# Altium footprint library thermostat.PcbLib: 105 footprints (part 4 of 7)
Each footprint in its own frame and in the unit in brackets; x right, y up, seen from the top. Pads: shape width x height; smd on the part's side, far side on the other; paste and mask are expansions set on the pad; w line width, h text height; cw(c..) or ccw(c..) is an arc to the next point about the centre after c.
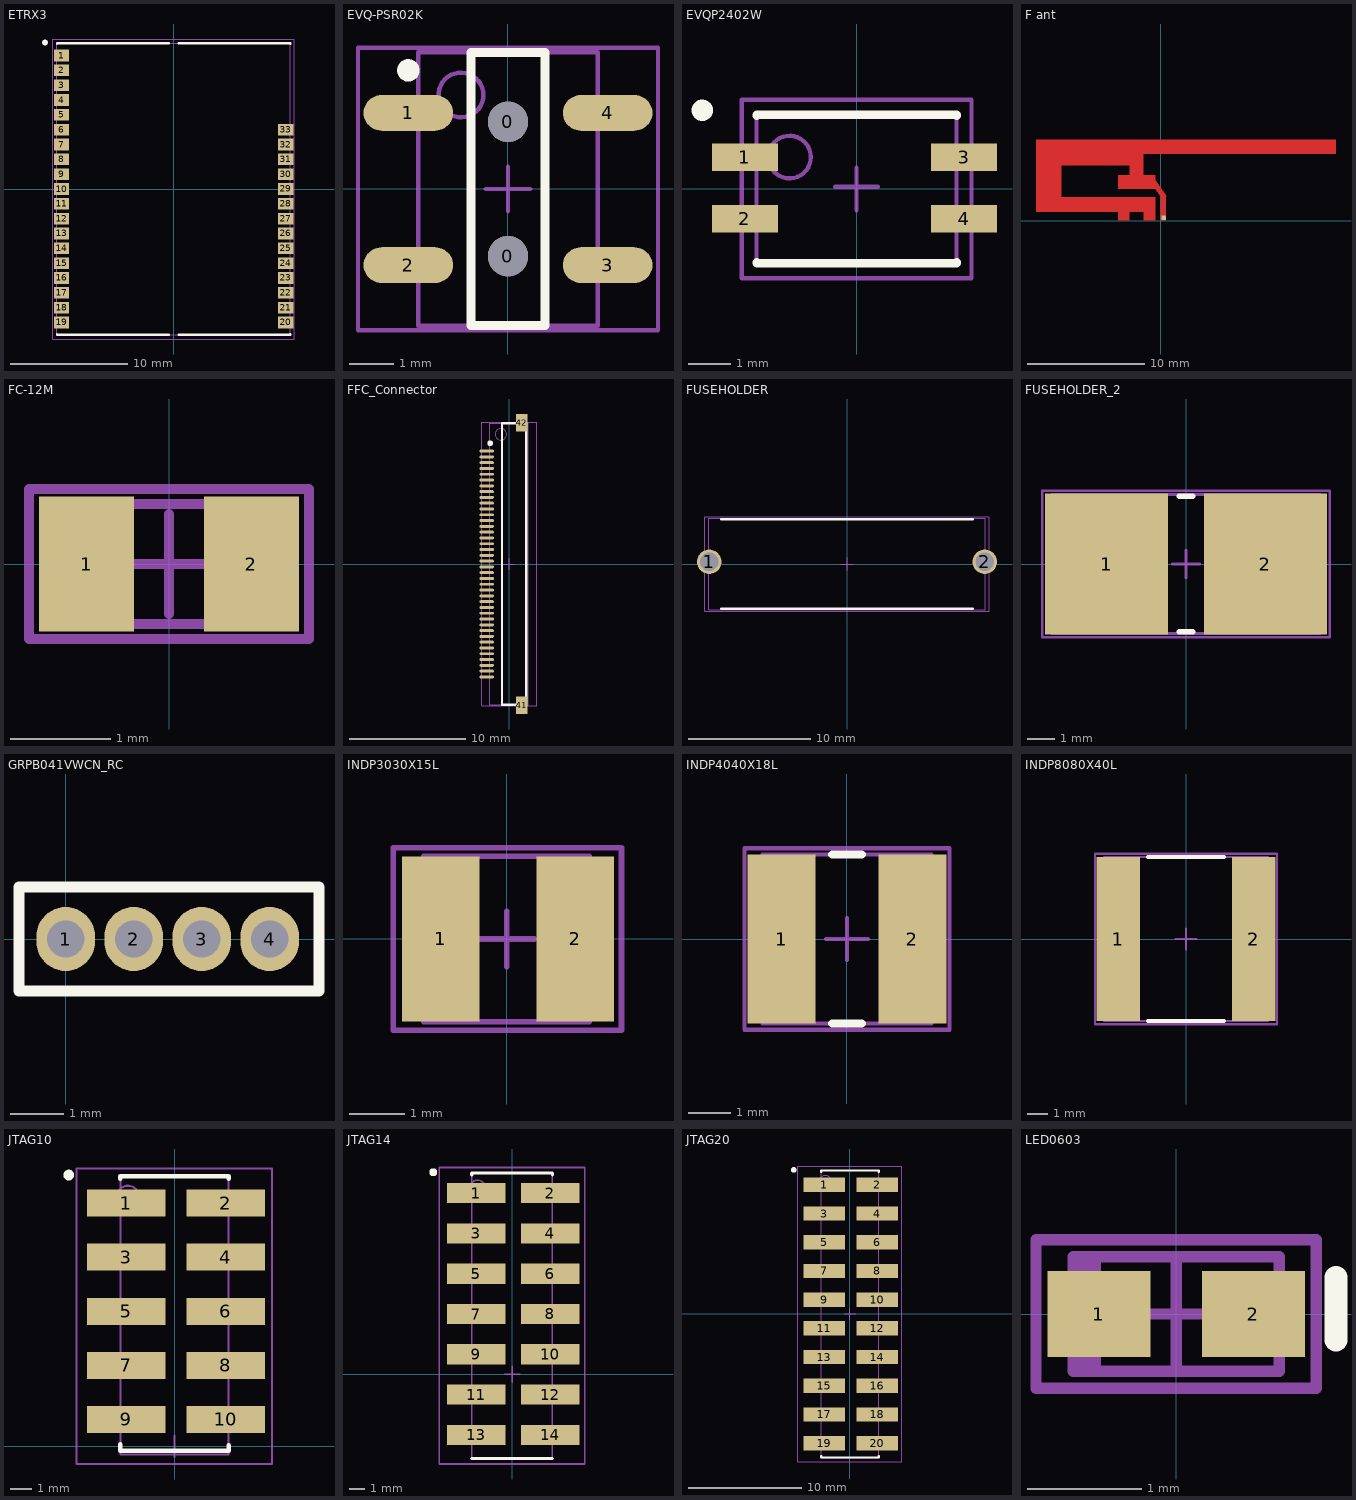
[diagram p3: the footprints below, top view; thin cyan lines are the x and y axes]

## ETRX3 [mm] "ETRX3, 38-Leads, Body 25,0x20,0mm (max), Pitch 1,27mm, IPC High Density"
height 6
pads (33):
  rect 1.3x1 smd: 1(-9.6,11.43) 2(-9.6,10.16) 3(-9.6,8.89) 4(-9.6,7.62) 5(-9.6,6.35) 6(-9.6,5.08) 7(-9.6,3.81) 8(-9.6,2.54) 9(-9.6,1.27) 10(-9.6,0) 11(-9.6,-1.27) 12(-9.6,-2.54) 13(-9.6,-3.81) 14(-9.6,-5.08) 15(-9.6,-6.35) 16(-9.6,-7.62) 17(-9.6,-8.89) 18(-9.6,-10.16) 19(-9.6,-11.43) 20(9.6,-11.43) 21(9.6,-10.16) 22(9.6,-8.89) 23(9.6,-7.62) 24(9.6,-6.35) 25(9.6,-5.08) 26(9.6,-3.81) 27(9.6,-2.54) 28(9.6,-1.27) 29(9.6,0) 30(9.6,1.27) 31(9.6,2.54) 32(9.6,3.81) 33(9.6,5.08)
Top Overlay:
  circle w0.25: c-11.025,12.55 r0.125
  lines w0.2: -10,-12.425 -10,-12.5 -0.425,-12.5 ; -10,12.425 -10,12.5 -0.425,12.5 ; 0.425,-12.5 10,-12.5 10,-12.425 ; 0.425,12.5 10,12.5 10,12.425
Mechanical 13:
  lines w0.1: -10,-12.5 10,-12.5 10,12.5 -10,12.5 -10,-12.5
Mechanical 15:
  lines w0.1: -10.35,-12.85 10.35,-12.85 10.35,12.85 -10.35,12.85 -10.35,-12.85
3D body: height 6, standoff 0.1, extent -10,-12.5 10,12.5

## EVQ-PSR02K [mm] "SWITCH TACTILE SPST-NO 0.05A 12V"
height 1.8
pads (6):
  round 0.9 hole 0.9: 0(0,-1.5) 0(0,1.5)
  oval 2x0.8 smd: 1(-2.225,1.7) 2(-2.225,-1.7) 3(2.225,-1.7) 4(2.225,1.7)
Top Overlay:
  circle w0.25: c-2.225,2.65 r0.125
  lines w0.2: -0.825,-3.05 -0.825,3.05 0.825,3.05 0.825,-3.05 -0.825,-3.05
Mechanical 13:
  circle w0.1: c-1.05,2.1 r0.5
  lines w0.1: -2,-3.05 -2,3.05 2,3.05 2,-3.05 -2,-3.05
Mechanical 15:
  lines w0.1: -0.5,0 0.5,0 ; 0,-0.5 0,0.5 ; -3.35,-3.15 -3.35,3.15 3.35,3.15 3.35,-3.15 -3.35,-3.15
3D body: height 1.8, standoff 0.2, extent -2,-3.05 2,3.05

## EVQP2402W [mm] "QFN, 4-Leads, Body 3,5x4,7mm (max), Pitch 1,70mm, IPC High Density"
height 2.5
pads (4):
  rect 1.55x0.65 smd: 1(-2.625,0.75) 2(-2.625,-0.7) 3(2.525,0.75) 4(2.525,-0.7)
Top Overlay:
  circle w0.25: c-3.625,1.85 r0.125
  lines w0.2: -2.35,-1.725 -2.35,-1.75 0.275,-1.75 ; -2.35,1.725 -2.35,1.75 0.275,1.75 ; -0.275,-1.75 2.35,-1.75 2.35,-1.725 ; -0.275,1.75 2.35,1.75 2.35,1.725
Mechanical 13:
  circle w0.1: c-1.575,0.75 r0.5
  lines w0.1: -2.35,-1.75 2.35,-1.75 2.35,1.75 -2.35,1.75 -2.35,-1.75
Mechanical 15:
  lines w0.1: -0.5,0.05 0.5,0.05 ; 0,-0.5 0,0.5 ; -2.7,-2.1 2.7,-2.1 2.7,2.1 -2.7,2.1 -2.7,-2.1
3D body: height 2.5, standoff 0.1, extent -2.35,-1.75 2.35,1.75

## F ant [mm] "F antenna 2.4Ghz"
pads (2):
  rect 0.4x0.4 smd paste+0: 1(0.254,0.254)
  rect 3x0.01 smd: 2(-2.032,0)
Top Layer:
  region: 0,2.03 0.379,2.291 -0.577,3.681 -0.956,3.421
  rectangle: 0,0 0.46,2.03
  rectangle: -3.65,0.74 -0.45,2.03
  rectangle: -3.65,2.69 -0.45,3.9
  rectangle: -10.63,0.74 -8.45,4.7
  rectangle: -10.63,5.7 14.95,6.91
  rectangle: -10.63,4.7 -1.45,5.7
  rectangle: -8.45,0.74 -3.575,2.03
  rectangle: -2.65,3.9 -1.45,4.7
  rectangle: -1.45,0 -0.45,0.74
  rectangle: -3.65,0 -2.65,0.74
  region: 0,2.03 0.46,2.03 0.379,2.291

## FC-12M [mm]
height 0.6
pads (2):
  rect 0.95x1.35 smd: 1(-0.825,0) 2(0.825,0)
Mechanical 13:
  lines w0.1: -1.025,-0.6 1.025,-0.6 1.025,0.6 -1.025,0.6 -1.025,-0.6
Mechanical 15:
  lines w0.1: -0.5,0 0.5,0 ; 0,-0.5 0,0.5 ; -1.4,-0.75 1.4,-0.75 1.4,0.75 -1.4,0.75 -1.4,-0.75
3D body: height 0.6, standoff 0, extent -1.025,-0.6 1.025,0.6

## FFC_Connector [mm] "FFC Connector"
height 1.8
pads (42):
  oval 1.25x0.25 smd: 1(-1.925,9.75) 2(-1.925,9.25) 3(-1.925,8.75) 4(-1.925,8.25) 5(-1.925,7.75) 6(-1.925,7.25) 7(-1.925,6.75) 8(-1.925,6.25) 9(-1.925,5.75) 10(-1.925,5.25) 11(-1.925,4.75) 12(-1.925,4.25) 13(-1.925,3.75) 14(-1.925,3.25) 15(-1.925,2.75) 16(-1.925,2.25) 17(-1.925,1.75) 18(-1.925,1.25) 19(-1.925,0.75) 20(-1.925,0.25) 21(-1.925,-0.25) 22(-1.925,-0.75) 23(-1.925,-1.25) 24(-1.925,-1.75) 25(-1.925,-2.25) 26(-1.925,-2.75) 27(-1.925,-3.25) 28(-1.925,-3.75) 29(-1.925,-4.25) 30(-1.925,-4.75) 31(-1.925,-5.25) 32(-1.925,-5.75) 33(-1.925,-6.25) 34(-1.925,-6.75) 35(-1.925,-7.25) 36(-1.925,-7.75) 37(-1.925,-8.25) 38(-1.925,-8.75) 39(-1.925,-9.25) 40(-1.925,-9.75)
  rect 1x1.5 smd: 41(1.1,-12.2) 42(1.1,12.2)
Top Overlay:
  circle w0.25: c-1.625,10.425 r0.125
  lines w0.2: -0.6,-12.15 1.5,-12.15 1.5,12.15 -0.6,12.15 -0.6,-12.15
Mechanical 13:
  circle w0.1: c-0.7,11.2 r0.5
  lines w0.1: -1.65,-12.15 1.65,-12.15 1.65,12.15 -1.65,12.15 -1.65,-12.15
Mechanical 15:
  lines w0.1: -0.5,0 0.5,0 ; 0,-0.5 0,0.5 ; -2.375,-12.25 2.375,-12.25 2.375,12.25 -2.375,12.25 -2.375,-12.25
3D body: height 1.8, standoff 0.2, extent -1.65,-12.15 1.65,12.15

## FUSEHOLDER [mm] "Chip Resistor, 2-Leads, Body 22,6x7,5mm, IPC High Density"
height 12
pads (2):
  round 2 hole 1.5: 1(-11.275,0.175) 2(11.275,0.175)
Top Overlay:
  lines w0.2: -10.3,-3.675 10.3,-3.675 ; -10.3,3.675 10.3,3.675
Mechanical 13:
  lines w0.1: -11.3,-3.75 -11.3,3.75 11.3,3.75 11.3,-3.75 -11.3,-3.75
Mechanical 15:
  lines w0.1: -0.5,0 0.5,0 ; 0,-0.5 0,0.5 ; -11.625,-3.875 -11.625,3.875 11.625,3.875 11.625,-3.875 -11.625,-3.875
3D body: height 12, standoff 0, extent -11.3,-3.75 11.3,3.75

## FUSEHOLDER_2 [mm] "Chip Resistor, 2-Leads, Body 9,7x5,0mm, IPC High Density"
height 3.81
pads (2):
  rect 4.45x5.1 smd: 1(-2.875,0) 2(2.875,0)
Top Overlay:
  lines w0.2: -0.25,-2.45 0.25,-2.45 ; -0.25,2.45 0.25,2.45
Mechanical 13:
  lines w0.1: -4.865,-2.515 4.865,-2.515 4.865,2.515 -4.865,2.515 -4.865,-2.515
Mechanical 15:
  lines w0.1: -0.5,0 0.5,0 ; 0,-0.5 0,0.5 ; -5.2,-2.65 5.2,-2.65 5.2,2.65 -5.2,2.65 -5.2,-2.65
3D body: height 3.81, standoff 0, extent -4.865,-2.515 4.865,2.515

## GRPB041VWCN_RC [mm] "CONN HEADER .050\" 4POS PCB R/A"
pads (4):
  oval 1.1x1.2 hole 0.7: 1(0,0) 2(1.275,0) 3(2.55,0) 4(3.825,0)
Top Overlay:
  lines w0.2: -0.875,-0.975 4.75,-0.975 4.75,0.975 -0.875,0.975 -0.875,-0.975
3D body: height 2.14, standoff 0, extent -0.787,-4.825 4.638,-0.625

## INDP3030X15L [mm] "Precision Wire Wound Inductor, 2-Leads, Body 3,0x3,0mm, IPC High Density"
height 1.5
pads (2):
  rect 1.4x3 smd: 1(-1.194,0) 2(1.245,0)
Mechanical 13:
  lines w0.1: -1.5,-1.5 1.5,-1.5 1.5,1.5 -1.5,1.5 -1.5,-1.5
Mechanical 15:
  lines w0.1: -0.5,0 0.5,0 ; 0,-0.5 0,0.5 ; -2.057,-1.65 2.083,-1.65 2.083,1.65 -2.057,1.65 -2.057,-1.65
3D body: height 1.5, standoff 0, extent -1.5,-1.5 1.5,1.5

## INDP4040X18L [mm] "Precision Wire Wound Inductor, 2-Leads, Body 4,0x4,0mm, IPC High Density"
height 1.8
pads (2):
  rect 1.6x4 smd: 1(-1.55,0) 2(1.55,0)
Top Overlay:
  lines w0.2: -0.35,-2 0.35,-2 ; -0.35,2 0.35,2
Mechanical 13:
  lines w0.1: -2,-2 -2,2 2,2 2,-2 -2,-2
Mechanical 15:
  lines w0.1: -0.5,0 0.5,0 ; 0,-0.5 0,0.5 ; -2.425,-2.15 -2.425,2.15 2.425,2.15 2.425,-2.15 -2.425,-2.15
3D body: height 1.8, standoff 0, extent -2,-2 2,2

## INDP8080X40L [mm] "Precision Wire Wound Inductor, 2-Leads, Body 8,0x8,0mm, IPC High Density"
height 4
pads (2):
  rect 2.1x8 smd: 1(-3.3,0) 2(3.3,0)
Top Overlay:
  lines w0.2: -1.85,-4 1.85,-4 ; -1.85,4 1.85,4
Mechanical 13:
  lines w0.1: -4,-4 4,-4 4,4 -4,4 -4,-4
Mechanical 15:
  lines w0.1: -0.5,0 0.5,0 ; 0,-0.5 0,0.5 ; -4.425,-4.15 4.425,-4.15 4.425,4.15 -4.425,4.15 -4.425,-4.15
3D body: height 4, standoff 0, extent -4,-4 4,4

## JTAG10 [mm] "JTAG, 20-Leads, Body 25,4x5,1mm (max), Pitch 2,54mm, IPC High Density"
height 10
pads (10):
  rect 3.68x1.27 smd: 1(-2.275,11.43) 2(2.4,11.43) 3(-2.275,8.89) 4(2.4,8.89) 5(-2.275,6.35) 6(2.4,6.35) 7(-2.275,3.81) 8(2.4,3.81) 9(-2.275,1.27) 10(2.4,1.27)
Top Overlay:
  circle w0.25: c-4.975,12.75 r0.125
  lines w0.2: -2.55,0.1 -2.55,-0.2 0.425,-0.2 ; -2.55,12.575 -2.55,12.7 0.425,12.7 ; -0.425,-0.2 2.55,-0.2 2.55,0.05 ; -0.425,12.7 2.55,12.7 2.55,12.575
Mechanical 13:
  circle w0.1: c-2.19,11.75 r0.5
  lines w0.1: -2.54,-0.375 -2.54,12.7 2.54,12.7 2.54,-0.375 -2.54,-0.375
Mechanical 15:
  lines w0.1: 0,-0.5 0,0.5 ; -4.6,-0.825 -4.6,13.05 4.575,13.05 4.575,-0.825 -4.6,-0.825
3D body: height 7, standoff 0.1, extent -2.54,-0.1 2.54,12.7

## JTAG14 [mm] "JTAG, 14-Leads, Body 25,4x5,1mm (max), Pitch 2,54mm, IPC High Density"
height 10
pads (14):
  rect 3.68x1.27 smd: 1(-2.275,11.43) 2(2.4,11.43) 3(-2.275,8.89) 4(2.4,8.89) 5(-2.275,6.35) 6(2.4,6.35) 7(-2.275,3.81) 8(2.4,3.81) 9(-2.275,1.27) 10(2.4,1.27) 11(-2.275,-1.27) 12(2.4,-1.27) 13(-2.275,-3.81) 14(2.4,-3.81)
Top Overlay:
  circle w0.25: c-4.975,12.75 r0.125
  lines w0.2: -2.55,-5.3 0.425,-5.3 ; -2.55,12.575 -2.55,12.7 0.425,12.7 ; -0.425,-5.3 2.55,-5.3 ; -0.425,12.7 2.55,12.7 2.55,12.575
Mechanical 13:
  circle w0.1: c-2.19,11.75 r0.5
  lines w0.1: -2.54,-5.3 2.54,-5.3 2.54,12.7 -2.54,12.7 -2.54,-5.3
Mechanical 15:
  lines w0.1: -0.5,0 0.5,0 ; 0,-0.5 0,0.5 ; -4.6,-5.65 4.575,-5.65 4.575,13.05 -4.6,13.05 -4.6,-5.65
3D body: height 7, standoff 0.1, extent -2.54,-5.225 2.54,12.7

## JTAG20 [mm] "JTAG, 20-Leads, Body 25,4x5,1mm (max), Pitch 2,54mm, IPC High Density"
height 10
pads (20):
  rect 3.68x1.27 smd: 1(-2.275,11.43) 2(2.4,11.43) 3(-2.275,8.89) 4(2.4,8.89) 5(-2.275,6.35) 6(2.4,6.35) 7(-2.275,3.81) 8(2.4,3.81) 9(-2.275,1.27) 10(2.4,1.27) 11(-2.275,-1.27) 12(2.4,-1.27) 13(-2.275,-3.81) 14(2.4,-3.81) 15(-2.275,-6.35) 16(2.4,-6.35) 17(-2.275,-8.89) 18(2.4,-8.89) 19(-2.275,-11.43) 20(2.4,-11.43)
Top Overlay:
  circle w0.25: c-4.975,12.75 r0.125
  lines w0.2: -2.55,-12.575 -2.55,-12.7 0.425,-12.7 ; -2.55,12.575 -2.55,12.7 0.425,12.7 ; -0.425,-12.7 2.55,-12.7 2.55,-12.575 ; -0.425,12.7 2.55,12.7 2.55,12.575
Mechanical 13:
  circle w0.1: c-2.19,11.75 r0.5
  lines w0.1: -2.54,-12.7 -2.54,12.7 2.54,12.7 2.54,-12.7 -2.54,-12.7
Mechanical 15:
  lines w0.1: -0.5,0 0.5,0 ; 0,-0.5 0,0.5 ; -4.6,-13.05 -4.6,13.05 4.575,13.05 4.575,-13.05 -4.6,-13.05
3D body: height 7, standoff 0.1, extent -2.54,-12.7 2.54,12.7

## LED0603 [mm] "Molded Diode, 2-Leads, Body 1,7x0,9mm, IPC High Density"
height 0.85
pads (2):
  rect 0.9x0.75 smd: 1(-0.675,0) 2(0.675,0)
Top Overlay:
  lines w0.2: 1.397,-0.229 1.397,0.321
Mechanical 13:
  rectangle: -0.9,-0.5 -0.658,0.5
  lines w0.1: -0.9,-0.5 0.9,-0.5 0.9,0.5 -0.9,0.5 -0.9,-0.5
Mechanical 15:
  lines w0.1: -0.5,0 0.5,0 ; 0,-0.5 0,0.5 ; -1.225,-0.65 1.225,-0.65 1.225,0.65 -1.225,0.65 -1.225,-0.65
3D body: height 0.85, standoff 0, extent -0.9,-0.5 0.9,0.5